# EAGLE library part BQ24104 (library aperley)
its dope
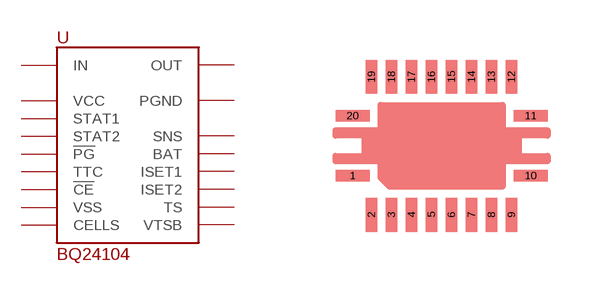
[diagram p1: symbol with the pads of S-PVQFN-N20; footprint S-PVQFN-N20]

Designator prefix -

## BQ24104  [S-PVQFN-N20]
1  OUT
2  STAT1
3  IN
4  IN
5  !PG
6  VCC
7  TTC
8  ISET1
9  ISET2
10  VSS
11  VTSB
12  TS
13  CELLS
14  BAT
15  SNS
16  !CE
17  PGND
18  PGND
19  STAT2
20  OUT

## Footprint S-PVQFN-N20 (pad centres in mm)
smd 0.85 x 0.28: 1 -2.225,-0.75; 10 2.225,-0.75; 11 2.225,0.75; 20 -2.225,0.75
smd 0.28 x 0.85: 2 -1.75,-1.725; 3 -1.25,-1.725; 4 -0.75,-1.725; 5 -0.25,-1.725; 6 0.25,-1.725; 7 0.75,-1.725; 8 1.25,-1.725; 9 1.75,-1.725; 12 1.75,1.725; 13 1.25,1.725; 14 0.75,1.725; 15 0.25,1.725; 16 -0.25,1.725; 17 -0.75,1.725; 18 -1.25,1.725; 19 -1.75,1.725